# Altium schematic symbol library Schlib1.SchLib: 1 symbol
Pins are listed as number, name and electrical type; pins without a type are passive.

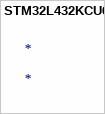
[diagram p0: symbol STM32L432KCU6]

## STM32L432KCU6
designator *
RISC Microcontroller, 32-Bit, FLASH, CORTEX-M4 CPU, 80MHz; Manufacturer: STMicroelectronics; Manufacturer Part Number: STM32L432KCU6; Supplier: Mouser; Supplier Part Number: 511-STM32L432KCU6; RoHS: Yes; Category: Microcontrollers; Stock: 18344; Pricing: 1=6,34, 10=5,69, 50=5,69, 100=4,66, 1000=3,35, 10000=3,35 (USD); Reach SVHC Compliant: Yes; RoHS Compliant: Yes; ComponentLink1URL: https://datasheet.ciiva.com:443/pdfs/VipMasterIC/IC/SGST/SGST-S-A0005002368/SGST-S-A0005002368-1.pdf?src-supplier=IHS+Markit; ComponentLink1Description: https://datasheet.ciiva.com:443/pdfs/VipMasterIC/IC/SGST/SGST-S-A0005002368/SGST-S-A0005002368-1.pdf?src-supplier=IHS+Markit